# EAGLE library part 5M240ZT100A5N (library 5M240ZT100A5N)
CPLD - Complex Programmable Logic Devices CPLD - MAX V 192 Macro 79 IOs Source: Datasheet <https://www.intel.com/content/dam/altera-www/global/en_US/pdfs/literature/packaging/04R00365-03.pdf>
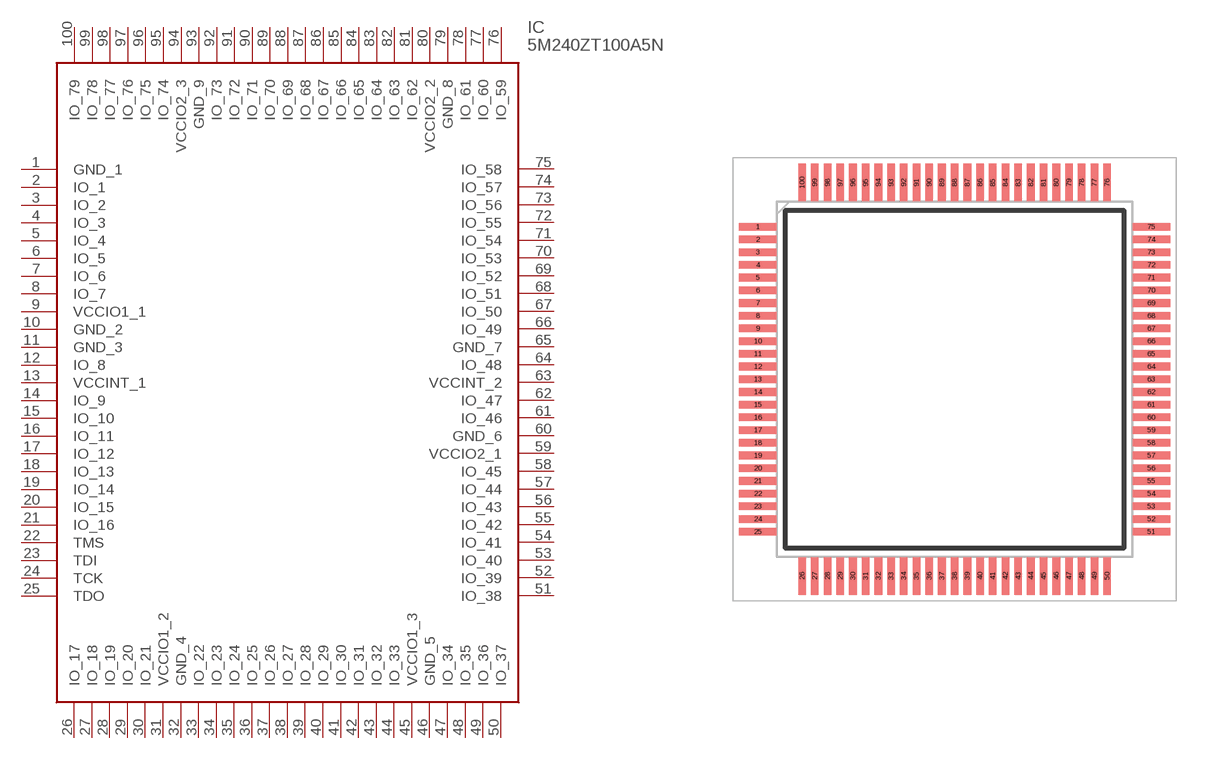
[diagram p0: symbol with the pads of QFP50P1600X1600X120-100N; footprint QFP50P1600X1600X120-100N]

Designator prefix IC

## 5M240ZT100A5N (Description: CPLD - Complex Programmable Logic Devices CPLD - MAX V 192 Macro 79 IOs; Height: 1.2mm; Manufacturer_Name: Intel; Manufacturer_Part_Number: 5M240ZT100A5N; Mouser_Part_Number: 989-5M240ZT100A5N; Mouser_Price-Stock: https://www.mouser.co.uk/ProductDetail/Intel-Altera/5M240ZT100A5N?qs=P2rvyRAZsYiTG4vl0k%252BnXw%3D%3D)  [QFP50P1600X1600X120-100N]
1  GND_1
2  IO_1
3  IO_2
4  IO_3
5  IO_4
6  IO_5
7  IO_6
8  IO_7
9  VCCIO1_1
10  GND_2
11  GND_3
12  IO_8
13  VCCINT_1
14  IO_9
15  IO_10
16  IO_11
17  IO_12
18  IO_13
19  IO_14
20  IO_15
21  IO_16
22  TMS
23  TDI
24  TCK
25  TDO
26  IO_17
27  IO_18
28  IO_19
29  IO_20
30  IO_21
31  VCCIO1_2
32  GND_4
33  IO_22
34  IO_23
35  IO_24
36  IO_25
37  IO_26
38  IO_27
39  IO_28
40  IO_29
41  IO_30
42  IO_31
43  IO_32
44  IO_33
45  VCCIO1_3
46  GND_5
47  IO_34
48  IO_35
49  IO_36
50  IO_37
51  IO_38
52  IO_39
53  IO_40
54  IO_41
55  IO_42
56  IO_43
57  IO_44
58  IO_45
59  VCCIO2_1
60  GND_6
61  IO_46
62  IO_47
63  VCCINT_2
64  IO_48
65  GND_7
66  IO_49
67  IO_50
68  IO_51
69  IO_52
70  IO_53
71  IO_54
72  IO_55
73  IO_56
74  IO_57
75  IO_58
76  IO_59
77  IO_60
78  IO_61
79  GND_8
80  VCCIO2_2
81  IO_62
82  IO_63
83  IO_64
84  IO_65
85  IO_66
86  IO_67
87  IO_68
88  IO_69
89  IO_70
90  IO_71
91  IO_72
92  IO_73
93  GND_9
94  VCCIO2_3
95  IO_74
96  IO_75
97  IO_76
98  IO_77
99  IO_78
100  IO_79

## Footprint QFP50P1600X1600X120-100N (pad centres in mm)
5M240ZT100A5N
smd 1.475 x 0.3: 1 -7.738,6; 2 -7.738,5.5; 3 -7.738,5; 4 -7.738,4.5; 5 -7.738,4; 6 -7.738,3.5; 7 -7.738,3; 8 -7.738,2.5; 9 -7.738,2; 10 -7.738,1.5; 11 -7.738,1; 12 -7.738,0.5; 13 -7.738,0; 14 -7.738,-0.5; 15 -7.738,-1; 16 -7.738,-1.5; 17 -7.738,-2; 18 -7.738,-2.5; 19 -7.738,-3; 20 -7.738,-3.5; 21 -7.738,-4; 22 -7.738,-4.5; 23 -7.738,-5; 24 -7.738,-5.5; 25 -7.738,-6; 51 7.738,-6; 52 7.738,-5.5; 53 7.738,-5; 54 7.738,-4.5; 55 7.738,-4; 56 7.738,-3.5; 57 7.738,-3; 58 7.738,-2.5; 59 7.738,-2; 60 7.738,-1.5; 61 7.738,-1; 62 7.738,-0.5; 63 7.738,0; 64 7.738,0.5; 65 7.738,1; 66 7.738,1.5; 67 7.738,2; 68 7.738,2.5; 69 7.738,3; 70 7.738,3.5; 71 7.738,4; 72 7.738,4.5; 73 7.738,5; 74 7.738,5.5; 75 7.738,6
smd 0.3 x 1.475: 26 -6,-7.738; 27 -5.5,-7.738; 28 -5,-7.738; 29 -4.5,-7.738; 30 -4,-7.738; 31 -3.5,-7.738; 32 -3,-7.738; 33 -2.5,-7.738; 34 -2,-7.738; 35 -1.5,-7.738; 36 -1,-7.738; 37 -0.5,-7.738; 38 0,-7.738; 39 0.5,-7.738; 40 1,-7.738; 41 1.5,-7.738; 42 2,-7.738; 43 2.5,-7.738; 44 3,-7.738; 45 3.5,-7.738; 46 4,-7.738; 47 4.5,-7.738; 48 5,-7.738; 49 5.5,-7.738; 50 6,-7.738; 76 6,7.738; 77 5.5,7.738; 78 5,7.738; 79 4.5,7.738; 80 4,7.738; 81 3.5,7.738; 82 3,7.738; 83 2.5,7.738; 84 2,7.738; 85 1.5,7.738; 86 1,7.738; 87 0.5,7.738; 88 0,7.738; 89 -0.5,7.738; 90 -1,7.738; 91 -1.5,7.738; 92 -2,7.738; 93 -2.5,7.738; 94 -3,7.738; 95 -3.5,7.738; 96 -4,7.738; 97 -4.5,7.738; 98 -5,7.738; 99 -5.5,7.738; 100 -6,7.738